# Altium footprint library DIP - Peg Leads.PcbLib: 71 footprints (part 1 of 5)
Each footprint in its own frame and in the unit in brackets; x right, y up, seen from the top. Pads: shape width x height; smd on the part's side, far side on the other; paste and mask are expansions set on the pad; w line width, h text height; cw(c..) or ccw(c..) is an arc to the next point about the centre after c.
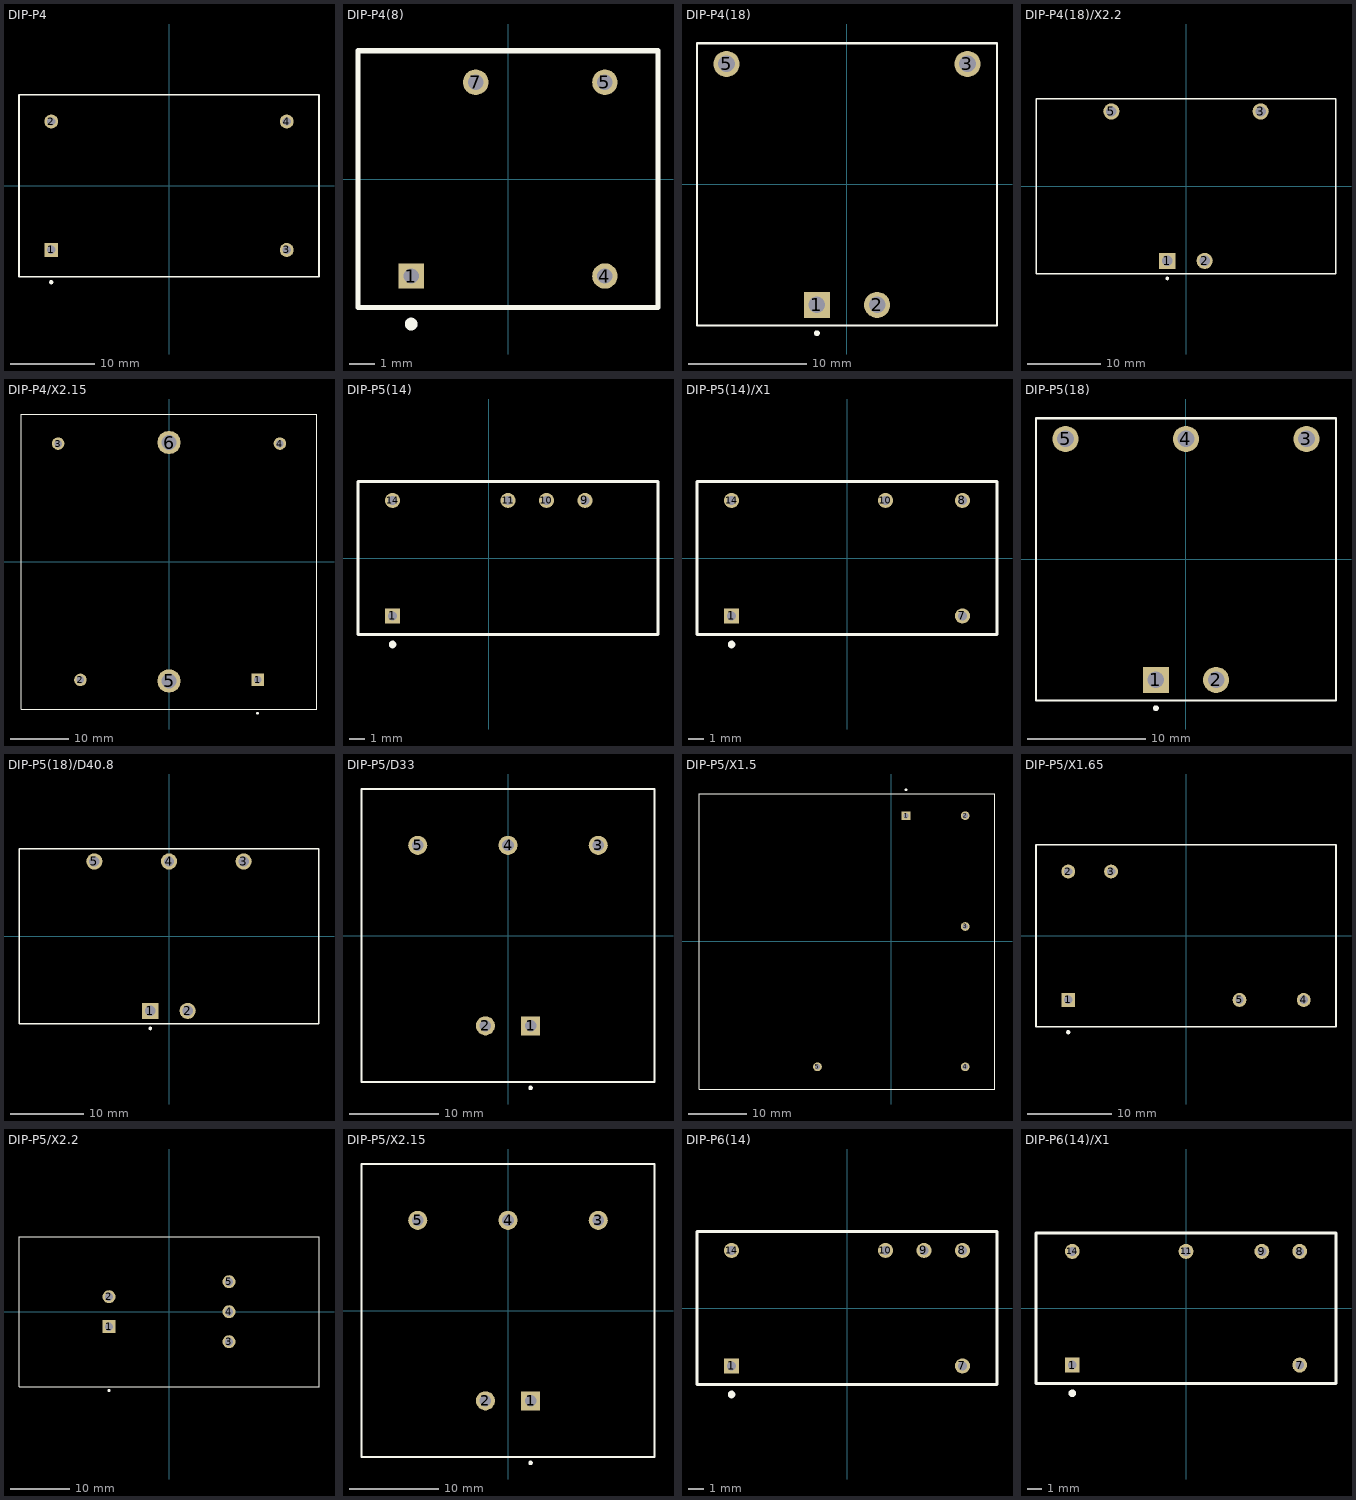
[diagram p0: the footprints below, top view; thin cyan lines are the x and y axes]

## DIP-P4 [mm] "DIP; 4 Round Pins; Row Space 27.94 mm; Pitch 15.24 mm"
height 14
pads (4):
  rect 1.65x1.65 hole 1: 1(-13.97,-7.62)
  round 1.65 hole 1: 2(-13.97,7.62) 3(13.97,-7.62) 4(13.97,7.62)
Top Overlay:
  circle w0.25: c-13.97,-11.45 r0.125
  lines w0.2: -17.8,-10.8 -17.8,10.8 17.8,10.8 17.8,-10.8 -17.8,-10.8

## DIP-P4(8) [mm] "DIP; 8 Rectangular pins (4 Absent); Row Space 7.62 mm; Pitch 2.54 mm"
height 7.7
pads (4):
  rect 1x1 hole 0.6: 1(-3.81,-3.81)
  round 1 hole 0.6: 4(3.81,-3.81) 5(3.81,3.81) 7(-1.27,3.81)
Top Overlay:
  circle w0.25: c-3.81,-5.7 r0.125
  lines w0.2: -5.9,-5.05 5.9,-5.05 5.9,5.05 -5.9,5.05 -5.9,-0.635 -5.9,-5.05

## DIP-P4(18) [mm] "DIP; 18 Round Pins (14 Absent); Row Space 20.32 mm; Pitch 2.54 mm"
height 10
pads (4):
  rect 2.2x2.2 hole 1.4: 1(-2.54,-10.16)
  round 2.2 hole 1.4: 2(2.54,-10.16) 3(10.16,10.16) 5(-10.16,10.16)
Top Overlay:
  circle w0.25: c-2.54,-12.55 r0.125
  lines w0.2: -12.65,-11.9 12.65,-11.9 12.65,11.9 -12.65,11.9 -12.65,-0.635 -12.65,-11.9

## DIP-P4(18)/X2.2 [mm] "DIP; 18 Round Pins (14 Absent); Row Space 20.32 mm; Pitch 2.54 mm"
height 10
pads (4):
  rect 2.2x2.2 hole 1.4: 1(-2.54,-10.16)
  round 2.2 hole 1.4: 2(2.54,-10.16) 3(10.16,10.16) 5(-10.16,10.16)
Top Overlay:
  circle w0.25: c-2.54,-12.55 r0.125
  lines w0.2: -20.4,-11.9 20.4,-11.9 20.4,11.9 -20.4,11.9 -20.4,-0.635 -20.4,-11.9

## DIP-P4/X2.15 [mm] "DIP; 4 Round Pins; Row Space 40.64 mm; Pitch 3.81 mm"
height 12.5
pads (6):
  rect 2.15x2.15 hole 1.3: 1(15.24,-20.32)
  round 2.15 hole 1.3: 2(-15.24,-20.32) 3(-19.05,20.32) 4(19.05,20.32)
  round 4 hole 2.5: 5(0,-20.5) 6(0,20.5)
Top Overlay:
  circle w0.25: c15.24,-26.05 r0.125
  lines w0.2: -25.4,-25.4 -25.4,25.4 25.4,25.4 25.4,-25.4 -25.4,-25.4

## DIP-P5(14) [mm] "DIP; 14 Rectangular pins (9 Absent); Row Space 7.62 mm; Pitch 2.54 mm"
height 7.7
pads (5):
  rect 1x1 hole 0.6: 1(-6.35,-3.81)
  round 1 hole 0.6: 9(6.35,3.81) 10(3.81,3.81) 11(1.27,3.81) 14(-6.35,3.81)
Top Overlay:
  circle w0.25: c-6.35,-5.7 r0.125
  lines w0.2: -8.63,-5.05 -8.63,-0.635 -8.63,5.05 11.17,5.05 11.17,-5.05 -8.63,-5.05

## DIP-P5(14)/X1 [mm] "DIP; 14 Rectangular pins (9 Absent); Row Space 7.62 mm; Pitch 2.54 mm"
height 7.7
pads (5):
  rect 1x1 hole 0.6: 1(-7.62,-3.81)
  round 1 hole 0.6: 7(7.62,-3.81) 8(7.62,3.81) 10(2.54,3.81) 14(-7.62,3.81)
Top Overlay:
  circle w0.25: c-7.62,-5.7 r0.125
  lines w0.2: -9.9,-5.05 -9.9,-0.635 -9.9,5.05 9.9,5.05 9.9,-5.05 -9.9,-5.05

## DIP-P5(18) [mm] "DIP; 18 Round Pins (13 Absent); Row Space 20.32 mm; Pitch 2.54 mm"
height 10
pads (5):
  rect 2.2x2.2 hole 1.4: 1(-2.54,-10.16)
  round 2.2 hole 1.4: 2(2.54,-10.16) 3(10.16,10.16) 4(0,10.16) 5(-10.16,10.16)
Top Overlay:
  circle w0.25: c-2.54,-12.55 r0.125
  lines w0.2: -12.65,-11.9 12.65,-11.9 12.65,11.9 -12.65,11.9 -12.65,-0.635 -12.65,-11.9

## DIP-P5(18)/D40.8 [mm] "DIP; 18 Round Pins (13 Absent); Row Space 20.32 mm; Pitch 2.54 mm"
height 10
pads (5):
  rect 2.2x2.2 hole 1.4: 1(-2.54,-10.16)
  round 2.2 hole 1.4: 2(2.54,-10.16) 3(10.16,10.16) 4(0,10.16) 5(-10.16,10.16)
Top Overlay:
  circle w0.25: c-2.54,-12.55 r0.125
  lines w0.2: -20.4,-11.9 20.4,-11.9 20.4,11.9 -20.4,11.9 -20.4,-0.635 -20.4,-11.9

## DIP-P5/D33 [mm] "DIP; 5 Round Pins; Row Space 20.32 mm; Pitch 2.54 mm"
height 16.5
pads (5):
  rect 2.15x2.15 hole 1.3: 1(2.54,-10.16)
  round 2.15 hole 1.3: 2(-2.54,-10.16) 3(10.16,10.16) 4(0,10.16) 5(-10.16,10.16)
Top Overlay:
  circle w0.25: c2.54,-17.15 r0.125
  lines w0.2: -16.5,-16.5 16.5,-16.5 16.5,16.5 -16.5,16.5 -16.5,-16.5

## DIP-P5/X1.5 [mm] "DIP; 5 Rectangular Pins; Row Space 43.18 mm; Pitch 5.08 mm"
height 14.7
pads (5):
  rect 1.5x1.5 hole 0.9: 1(2.54,21.59)
  round 1.5 hole 0.9: 2(12.7,21.59) 3(12.7,2.54) 4(12.7,-21.59) 5(-12.7,-21.59)
Top Overlay:
  circle w0.25: c2.54,26.05 r0.125
  lines w0.2: -33.02,-25.4 -33.02,25.4 17.78,25.4 17.78,-25.4 -33.02,-25.4

## DIP-P5/X1.65 [mm] "DIP; 5 Round Pins; Row Space 15.24 mm; Pitch 2.54 mm"
height 14
pads (5):
  rect 1.65x1.65 hole 1: 1(-13.97,-7.62)
  round 1.65 hole 1: 2(-13.97,7.62) 3(-8.89,7.62) 4(13.97,-7.62) 5(6.35,-7.62)
Top Overlay:
  circle w0.25: c-13.97,-11.45 r0.125
  lines w0.2: -17.8,-10.8 17.8,-10.8 17.8,10.8 -17.8,10.8 -17.8,-10.8

## DIP-P5/X2.2 [mm] "DIP; 5 Round Pins; Row Space 20.32 mm; Pitch 2.54 mm"
height 12
pads (5):
  rect 2.2x2.2 hole 1.4: 1(-10.16,-2.54)
  round 2.2 hole 1.4: 2(-10.16,2.54) 3(10.16,-5.08) 4(10.16,0) 5(10.16,5.08)
Top Overlay:
  circle w0.25: c-10.16,-13.35 r0.125
  lines w0.2: -25.4,-12.7 -25.4,12.7 25.4,12.7 25.4,-12.7 -25.4,-12.7

## DIP-P5/X2.15 [mm] "DIP; 5 Round Pins; Row Space 20.32 mm; Pitch 2.54 mm"
height 12.7
pads (5):
  rect 2.15x2.15 hole 1.3: 1(2.54,-10.16)
  round 2.15 hole 1.3: 2(-2.54,-10.16) 3(10.16,10.16) 4(0,10.16) 5(-10.16,10.16)
Top Overlay:
  circle w0.25: c2.54,-17.15 r0.125
  lines w0.2: -16.5,-16.5 16.5,-16.5 16.5,16.5 -16.5,16.5 -16.5,-16.5

## DIP-P6(14) [mm] "DIP; 14 Rectangular pins (8 Absent); Row Space 7.62 mm; Pitch 2.54 mm"
height 7.7
pads (6):
  rect 1x1 hole 0.6: 1(-7.62,-3.81)
  round 1 hole 0.6: 7(7.62,-3.81) 8(7.62,3.81) 9(5.08,3.81) 10(2.54,3.81) 14(-7.62,3.81)
Top Overlay:
  circle w0.25: c-7.62,-5.7 r0.125
  lines w0.2: -9.9,-5.05 9.9,-5.05 9.9,5.05 -9.9,5.05 -9.9,-0.635 -9.9,-5.05

## DIP-P6(14)/X1 [mm] "DIP; 14 Rectangular pins (8 Absent); Row Space 7.62 mm; Pitch 2.54 mm"
height 7.7
pads (6):
  rect 1x1 hole 0.6: 1(-7.62,-3.81)
  round 1 hole 0.6: 7(7.62,-3.81) 8(7.62,3.81) 9(5.08,3.81) 11(0,3.81) 14(-7.62,3.81)
Top Overlay:
  circle w0.25: c-7.62,-5.7 r0.125
  lines w0.2: -10.05,-5.05 -10.05,-0.635 -10.05,5.05 10.05,5.05 10.05,-5.05 -10.05,-5.05